# EAGLE library part DAC4814 (library burr-brown)
Quad 12-Bit DAC Serial Interface
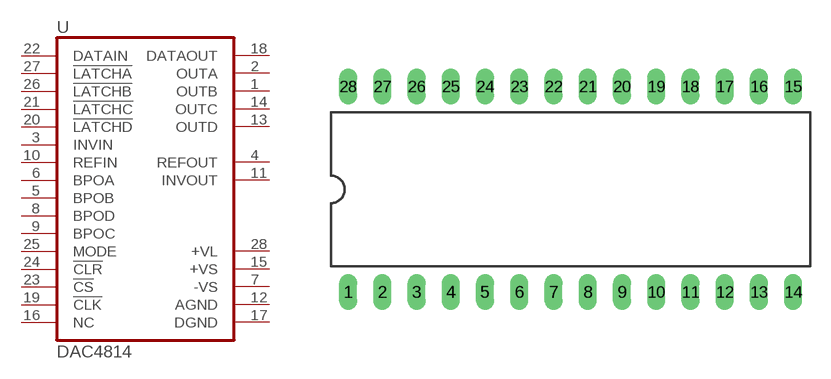
[diagram p22: symbol with the pads of DIL28; footprint DIL28]

Designator prefix U

## DAC4814P  [DIL28]
1  OUTB  out
2  OUTA  out
3  INVIN  in
4  REFOUT  out
5  BPOB  in
6  BPOA  in
7  -VS  pwr
8  BPOD  in
9  BPOC  in
10  REFIN  in
11  INVOUT  out
12  AGND  pwr
13  OUTD  out
14  OUTC  out
15  +VS  pwr
16  NC  nc
17  DGND  pwr
18  DATAOUT  out
19  !CLK  in
20  !LATCHD  in
21  !LATCHC  in
22  DATAIN  in
23  !CS  in
24  !CLR  in
25  MODE  in
26  !LATCHB  in
27  !LATCHA  in
28  +VL  pwr

## Footprint DIL28 (pad centres in mm)
Dual In Line Package
drill 0.813 long: 1 -16.51,-7.62; 2 -13.97,-7.62; 3 -11.43,-7.62; 4 -8.89,-7.62; 5 -6.35,-7.62; 6 -3.81,-7.62; 7 -1.27,-7.62; 8 1.27,-7.62; 9 3.81,-7.62; 10 6.35,-7.62; 11 8.89,-7.62; 12 11.43,-7.62; 13 13.97,-7.62; 14 16.51,-7.62; 15 16.51,7.62; 16 13.97,7.62; 17 11.43,7.62; 18 8.89,7.62; 19 6.35,7.62; 20 3.81,7.62; 21 1.27,7.62; 22 -1.27,7.62; 23 -3.81,7.62; 24 -6.35,7.62; 25 -8.89,7.62; 26 -11.43,7.62; 27 -13.97,7.62; 28 -16.51,7.62